# Altium footprint library WCH.PcbLib: 46 footprints (part 3 of 3)
Each footprint in its own frame and in the unit in brackets; x right, y up, seen from the top. Pads: shape width x height; smd on the part's side, far side on the other; paste and mask are expansions set on the pad; w line width, h text height; cw(c..) or ccw(c..) is an arc to the next point about the centre after c.
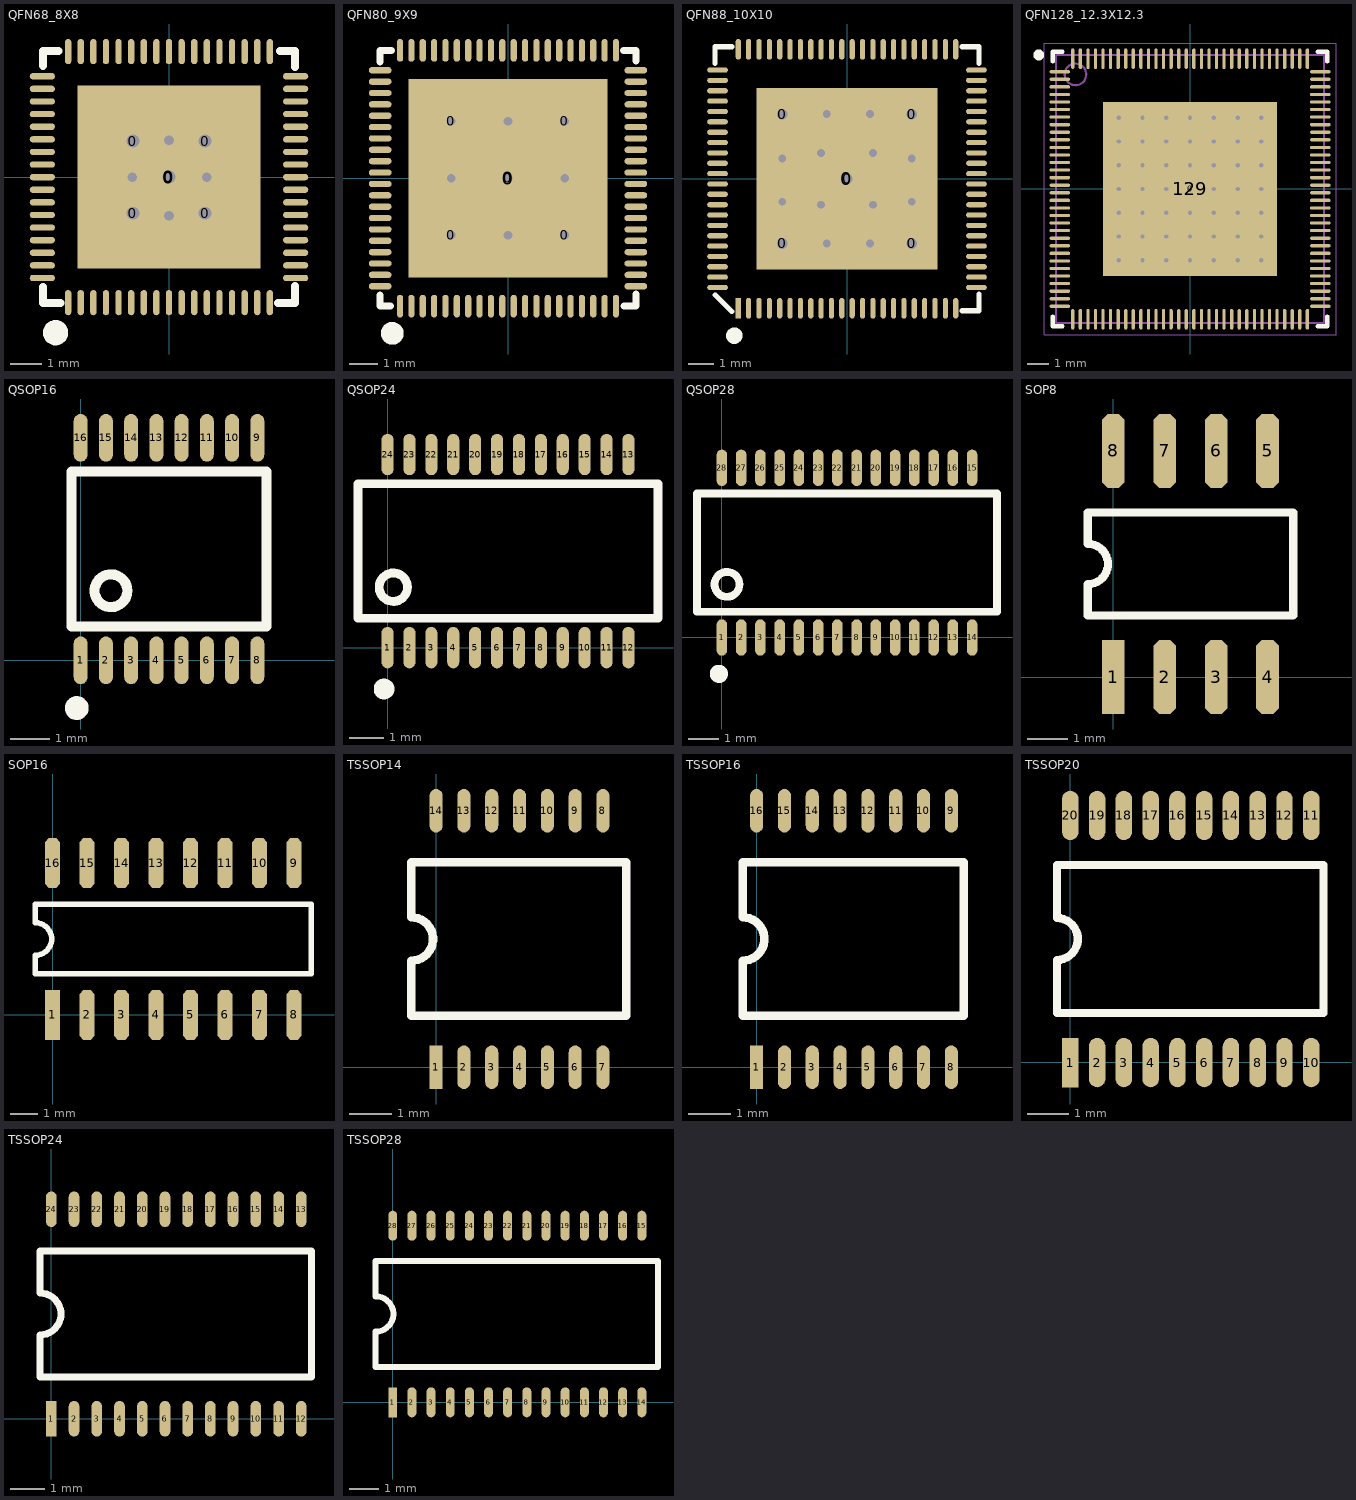
[diagram p2: the footprints below, top view; thin cyan lines are the x and y axes]

## QFN68_8X8 [mm]
pads (74):
  round 0.559 hole 0.406: 0(-1.143,-1.143) 0(-1.143,1.143) 0(0,0) 0(1.143,-1.143) 0(1.143,1.143)
  rect 5.8x5.8 smd mask+0.051: 0(0,0)
  oval 0.2x0.8 smd mask+0.051: 1(-3.2,-3.982) 2(-2.8,-3.982) 3(-2.4,-3.982) 4(-2,-3.982) 5(-1.6,-3.982) 6(-1.2,-3.982) 7(-0.8,-3.982) 8(-0.4,-3.982) 9(0,-3.982) 10(0.4,-3.982) 11(0.8,-3.982) 12(1.2,-3.982) 13(1.6,-3.982) 14(2,-3.982) 15(2.4,-3.982) 16(2.8,-3.982) 17(3.2,-3.982) 35(3.2,3.982) 36(2.8,3.982) 37(2.4,3.982) 38(2,3.982) 39(1.6,3.982) 40(1.2,3.982) 41(0.8,3.982) 42(0.4,3.982) 43(0,3.982) 44(-0.4,3.982) 45(-0.8,3.982) 46(-1.2,3.982) 47(-1.6,3.982) 48(-2,3.982) 49(-2.4,3.982) 50(-2.8,3.982) 51(-3.2,3.982)
  oval 0.8x0.2 smd mask+0.051: 18(4.018,-3.2) 19(4.018,-2.8) 20(4.018,-2.4) 21(4.018,-2) 22(4.018,-1.6) 23(4.018,-1.2) 24(4.018,-0.8) 25(4.018,-0.4) 26(4.018,0) 27(4.018,0.4) 28(4.018,0.8) 29(4.018,1.2) 30(4.018,1.6) 31(4.018,2) 32(4.018,2.4) 33(4.018,2.8) 34(4.018,3.2) 52(-4.018,3.2) 53(-4.018,2.8) 54(-4.018,2.4) 55(-4.018,2) 56(-4.018,1.6) 57(-4.018,1.2) 58(-4.018,0.8) 59(-4.018,0.4) 60(-4.018,0) 61(-4.018,-0.4) 62(-4.018,-0.8) 63(-4.018,-1.2) 64(-4.018,-1.6) 65(-4.018,-2) 66(-4.018,-2.4) 67(-4.018,-2.8) 68(-4.018,-3.2)
via 1.194,0 diameter 0.61 hole 0.305
via 0,-1.219 diameter 0.61 hole 0.305
via -1.168,0 diameter 0.61 hole 0.305
via 0,1.168 diameter 0.61 hole 0.305
Top Overlay:
  circle w0.4: c-3.599,-4.935 r0.2
  lines w0.254: -4,-3.492 -4,-4 -3.447,-4 ; -4,3.534 -4,4 -3.503,4 ; 3.459,-4 4,-4 4,-3.458 ; 3.517,4 4,4 4,3.498
3D body "QFN68_8x8mm.step": height 1, standoff 0.15, extent -4.02,-4.02 4.02,4.02

## QFN80_9X9 [mm]
pads (86):
  round 0.61 hole 0.305 mask+0.051: 0(-2,-2) 0(-2,2) 0(0,0) 0(2,-2) 0(2,2)
  rect 7x7 smd mask+0.051: 0(0,0)
  oval 0.22x0.8 smd mask+0.051: 1(-3.8,-4.5) 2(-3.4,-4.5) 3(-3,-4.5) 4(-2.6,-4.5) 5(-2.2,-4.5) 6(-1.8,-4.5) 7(-1.4,-4.5) 8(-1,-4.5) 9(-0.6,-4.5) 10(-0.2,-4.5) 11(0.2,-4.5) 12(0.6,-4.5) 13(1,-4.5) 14(1.4,-4.5) 15(1.8,-4.5) 16(2.2,-4.5) 17(2.6,-4.5) 18(3,-4.5) 19(3.4,-4.5) 20(3.8,-4.5) 41(3.8,4.5) 42(3.4,4.5) 43(3,4.5) 44(2.6,4.5) 45(2.2,4.5) 46(1.8,4.5) 47(1.4,4.5) 48(1,4.5) 49(0.6,4.5) 50(0.2,4.5) 51(-0.2,4.5) 52(-0.6,4.5) 53(-1,4.5) 54(-1.4,4.5) 55(-1.8,4.5) 56(-2.2,4.5) 57(-2.6,4.5) 58(-3,4.5) 59(-3.4,4.5) 60(-3.8,4.5)
  oval 0.8x0.22 smd mask+0.051: 21(4.5,-3.8) 22(4.5,-3.4) 23(4.5,-3) 24(4.5,-2.6) 25(4.5,-2.2) 26(4.5,-1.8) 27(4.5,-1.4) 28(4.5,-1) 29(4.5,-0.6) 30(4.5,-0.2) 31(4.5,0.2) 32(4.5,0.6) 33(4.5,1) 34(4.5,1.4) 35(4.5,1.8) 36(4.5,2.2) 37(4.5,2.6) 38(4.5,3) 39(4.5,3.4) 40(4.5,3.8) 61(-4.5,3.8) 62(-4.5,3.4) 63(-4.5,3) 64(-4.5,2.6) 65(-4.5,2.2) 66(-4.5,1.8) 67(-4.5,1.4) 68(-4.5,1) 69(-4.5,0.6) 70(-4.5,0.2) 71(-4.5,-0.2) 72(-4.5,-0.6) 73(-4.5,-1) 74(-4.5,-1.4) 75(-4.5,-1.8) 76(-4.5,-2.2) 77(-4.5,-2.6) 78(-4.5,-3) 79(-4.5,-3.4) 80(-4.5,-3.8)
via 0,2 diameter 0.6 hole 0.3
via 2,0 diameter 0.6 hole 0.3
via 0,-2 diameter 0.6 hole 0.3
via -2,0 diameter 0.6 hole 0.3
Top Overlay:
  circle w0.4: c-4.073,-5.457 r0.2
  lines w0.254: -4.5,-4.121 -4.5,-4.5 -4.135,-4.5 ; -4.5,4.095 -4.5,4.5 -4.095,4.5 ; 4.069,4.5 4.5,4.5 4.5,4.137 ; 4.082,-4.5 4.5,-4.5 4.5,-4.079
3D body "QFN80_9x9.step": height 0.95, standoff 0, extent -4.551,-4.551 4.551,4.551

## QFN88_10X10 [mm]
pads (94):
  round 0.711 hole 0.406 mask+0.051: 0(-2.5,-2.5) 0(-2.5,2.5) 0(0,0) 0(2.5,-2.5) 0(2.5,2.5)
  rect 7x7 smd mask+0.051: 0(0,0)
  rect 0.2x0.8 smd mask+0.051: 1(-4.2,-5)
  oval 0.2x0.8 smd mask+0.051: 2(-3.8,-5) 3(-3.4,-5) 4(-3,-5) 5(-2.6,-5) 6(-2.2,-5) 7(-1.8,-5) 8(-1.4,-5) 9(-1,-5) 10(-0.6,-5) 11(-0.2,-5) 12(0.2,-5) 13(0.6,-5) 14(1,-5) 15(1.4,-5) 16(1.8,-5) 17(2.2,-5) 18(2.6,-5) 19(3,-5) 20(3.4,-5) 21(3.8,-5) 22(4.2,-5) 45(4.2,5) 46(3.8,5) 47(3.4,5) 48(3,5) 49(2.6,5) 50(2.2,5) 51(1.8,5) 52(1.4,5) 53(1,5) 54(0.6,5) 55(0.2,5) 56(-0.2,5) 57(-0.6,5) 58(-1,5) 59(-1.4,5) 60(-1.8,5) 61(-2.2,5) 62(-2.6,5) 63(-3,5) 64(-3.4,5) 65(-3.8,5) 66(-4.2,5)
  oval 0.8x0.2 smd mask+0.051: 23(5,-4.2) 24(5,-3.8) 25(5,-3.4) 26(5,-3) 27(5,-2.6) 28(5,-2.2) 29(5,-1.8) 30(5,-1.4) 31(5,-1) 32(5,-0.6) 33(5,-0.2) 34(5,0.2) 35(5,0.6) 36(5,1) 37(5,1.4) 38(5,1.8) 39(5,2.2) 40(5,2.6) 41(5,3) 42(5,3.4) 43(5,3.8) 44(5,4.2) 67(-5,4.2) 68(-5,3.8) 69(-5,3.4) 70(-5,3) 71(-5,2.6) 72(-5,2.2) 73(-5,1.8) 74(-5,1.4) 75(-5,1) 76(-5,0.6) 77(-5,0.2) 78(-5,-0.2) 79(-5,-0.6) 80(-5,-1) 81(-5,-1.4) 82(-5,-1.8) 83(-5,-2.2) 84(-5,-2.6) 85(-5,-3) 86(-5,-3.4) 87(-5,-3.8) 88(-5,-4.2)
via 1,1 diameter 0.6 hole 0.3
via 1,-1 diameter 0.6 hole 0.3
via -1,-1 diameter 0.6 hole 0.3
via -1,1 diameter 0.6 hole 0.3
via -0.783,2.5 diameter 0.6 hole 0.3
via 2.5,0.783 diameter 0.6 hole 0.3
via 2.5,-0.884 diameter 0.6 hole 0.3
via -2.5,0.783 diameter 0.6 hole 0.3
via 0.884,2.5 diameter 0.6 hole 0.3
via -2.5,-0.884 diameter 0.6 hole 0.3
via -0.783,-2.5 diameter 0.6 hole 0.3
via 0.884,-2.5 diameter 0.6 hole 0.3
Top Overlay:
  circle w0.381: c-4.352,-6.062 r0.127
  lines w0.2: -5.1,4.45 -5.1,5.1 -4.45,5.1 ; 4.45,-5.1 5.1,-5.1 5.1,-4.45 ; 4.45,5.1 5.1,5.1 5.1,4.45
  lines w0.203: -5.089,-4.492 -4.454,-5.127
3D body "QFN88.step": height 0.86, standoff 0, extent -5.02,-5.01 5,5.01

## QFN128_12.3X12.3 [mm] "QFN, 128-Leads, Body 12.30x12.30mm, Pitch 0.35mm, Thermal Pad 8.05x8.05mm, IPC Medium Density 散热过孔尺寸待确认是否需要优化"
height 0.95
pads (130):
  round 0.5 hole 0.2: 0(0,0)
  oval 0.95x0.15 smd mask+0.05: 1(-6.025,5.425) 2(-6.025,5.075) 3(-6.025,4.725) 4(-6.025,4.375) 5(-6.025,4.025) 6(-6.025,3.675) 7(-6.025,3.325) 8(-6.025,2.975) 9(-6.025,2.625) 10(-6.025,2.275) 11(-6.025,1.925) 12(-6.025,1.575) 13(-6.025,1.225) 14(-6.025,0.875) 15(-6.025,0.525) 16(-6.025,0.175) 17(-6.025,-0.175) 18(-6.025,-0.525) 19(-6.025,-0.875) 20(-6.025,-1.225) 21(-6.025,-1.575) 22(-6.025,-1.925) 23(-6.025,-2.275) 24(-6.025,-2.625) 25(-6.025,-2.975) 26(-6.025,-3.325) 27(-6.025,-3.675) 28(-6.025,-4.025) 29(-6.025,-4.375) 30(-6.025,-4.725) 31(-6.025,-5.075) 32(-6.025,-5.425) 65(6.025,-5.425) 66(6.025,-5.075) 67(6.025,-4.725) 68(6.025,-4.375) 69(6.025,-4.025) 70(6.025,-3.675) 71(6.025,-3.325) 72(6.025,-2.975) 73(6.025,-2.625) 74(6.025,-2.275) 75(6.025,-1.925) 76(6.025,-1.575) 77(6.025,-1.225) 78(6.025,-0.875) 79(6.025,-0.525) 80(6.025,-0.175) 81(6.025,0.175) 82(6.025,0.525) 83(6.025,0.875) 84(6.025,1.225) 85(6.025,1.575) 86(6.025,1.925) 87(6.025,2.275) 88(6.025,2.625) 89(6.025,2.975) 90(6.025,3.325) 91(6.025,3.675) 92(6.025,4.025) 93(6.025,4.375) 94(6.025,4.725) 95(6.025,5.075) 96(6.025,5.425)
  oval 0.15x0.95 smd mask+0.05: 33(-5.425,-6.025) 34(-5.075,-6.025) 35(-4.725,-6.025) 36(-4.375,-6.025) 37(-4.025,-6.025) 38(-3.675,-6.025) 39(-3.325,-6.025) 40(-2.975,-6.025) 41(-2.625,-6.025) 42(-2.275,-6.025) 43(-1.925,-6.025) 44(-1.575,-6.025) 45(-1.225,-6.025) 46(-0.875,-6.025) 47(-0.525,-6.025) 48(-0.175,-6.025) 49(0.175,-6.025) 50(0.525,-6.025) 51(0.875,-6.025) 52(1.225,-6.025) 53(1.575,-6.025) 54(1.925,-6.025) 55(2.275,-6.025) 56(2.625,-6.025) 57(2.975,-6.025) 58(3.325,-6.025) 59(3.675,-6.025) 60(4.025,-6.025) 61(4.375,-6.025) 62(4.725,-6.025) 63(5.075,-6.025) 64(5.425,-6.025) 97(5.425,6.025) 98(5.075,6.025) 99(4.725,6.025) 100(4.375,6.025) 101(4.025,6.025) 102(3.675,6.025) 103(3.325,6.025) 104(2.975,6.025) 105(2.625,6.025) 106(2.275,6.025) 107(1.925,6.025) 108(1.575,6.025) 109(1.225,6.025) 110(0.875,6.025) 111(0.525,6.025) 112(0.175,6.025) 113(-0.175,6.025) 114(-0.525,6.025) 115(-0.875,6.025) 116(-1.225,6.025) 117(-1.575,6.025) 118(-1.925,6.025) 119(-2.275,6.025) 120(-2.625,6.025) 121(-2.975,6.025) 122(-3.325,6.025) 123(-3.675,6.025) 124(-4.025,6.025) 125(-4.375,6.025) 126(-4.725,6.025) 127(-5.075,6.025) 128(-5.425,6.025)
  rect 8.05x8.05 smd: 129(0,0)
via -3.3,3.3 diameter 0.5 hole 0.2
via -2.2,3.3 diameter 0.5 hole 0.2
via -1.1,3.3 diameter 0.5 hole 0.2
via 0,3.3 diameter 0.5 hole 0.2
via 1.1,3.3 diameter 0.5 hole 0.2
via 2.2,3.3 diameter 0.5 hole 0.2
via -3.3,2.2 diameter 0.5 hole 0.2
via -2.2,2.2 diameter 0.5 hole 0.2
via -1.1,2.2 diameter 0.5 hole 0.2
via 0,2.2 diameter 0.5 hole 0.2
via 1.1,2.2 diameter 0.5 hole 0.2
via 2.2,2.2 diameter 0.5 hole 0.2
via 3.3,2.2 diameter 0.5 hole 0.2
via -3.3,1.1 diameter 0.5 hole 0.2
via -2.2,1.1 diameter 0.5 hole 0.2
via -1.1,1.1 diameter 0.5 hole 0.2
via 0,1.1 diameter 0.5 hole 0.2
via 1.1,1.1 diameter 0.5 hole 0.2
via 2.2,1.1 diameter 0.5 hole 0.2
via 3.3,1.1 diameter 0.5 hole 0.2
via -3.3,0 diameter 0.5 hole 0.2
via -2.2,0 diameter 0.5 hole 0.2
via -1.1,0 diameter 0.5 hole 0.2
via 1.1,0 diameter 0.5 hole 0.2
via 2.2,0 diameter 0.5 hole 0.2
via 3.3,0 diameter 0.5 hole 0.2
via -3.3,-1.1 diameter 0.5 hole 0.2
via -2.2,-1.1 diameter 0.5 hole 0.2
via -1.1,-1.1 diameter 0.5 hole 0.2
via 0,-1.1 diameter 0.5 hole 0.2
via 1.1,-1.1 diameter 0.5 hole 0.2
via 2.2,-1.1 diameter 0.5 hole 0.2
via 3.3,-1.1 diameter 0.5 hole 0.2
via -3.3,-2.2 diameter 0.5 hole 0.2
via -2.2,-2.2 diameter 0.5 hole 0.2
via -1.1,-2.2 diameter 0.5 hole 0.2
via 0,-2.2 diameter 0.5 hole 0.2
via 1.1,-2.2 diameter 0.5 hole 0.2
via 2.2,-2.2 diameter 0.5 hole 0.2
via 3.3,-2.2 diameter 0.5 hole 0.2
via -3.3,-3.3 diameter 0.5 hole 0.2
via -2.2,-3.3 diameter 0.5 hole 0.2
via -1.1,-3.3 diameter 0.5 hole 0.2
via 0,-3.3 diameter 0.5 hole 0.2
via 1.1,-3.3 diameter 0.5 hole 0.2
via 2.2,-3.3 diameter 0.5 hole 0.2
via 3.3,-3.3 diameter 0.5 hole 0.2
via 3.3,3.3 diameter 0.5 hole 0.2
Top Overlay:
  circle w0.25: c-7,6.2 r0.125
  lines w0.2: -6.35,-5.9 -6.35,-6.35 -5.9,-6.35 ; -6.35,5.9 -6.35,6.35 -5.9,6.35 ; 5.9,-6.35 6.35,-6.35 6.35,-5.9 ; 5.9,6.35 6.35,6.35 6.35,5.9
Mechanical 13:
  circle w0.1: c-5.3,5.3 r0.5
  lines w0.1: -6.2,-6.2 -6.2,6.2 6.2,6.2 6.2,-6.2 -6.2,-6.2
Mechanical 15:
  lines w0.05: -6.75,-6.75 -6.75,6.75 6.75,6.75 6.75,-6.75 -6.75,-6.75
  lines w0.1: -0.5,0 0.5,0 ; 0,-0.5 0,0.5
3D body "QFN128-12.3x12.3.step": height 0.95, standoff 0, extent -6.25,-6.25 6.25,6.25

## QSOP16 [mm]
pads (16):
  oval 0.35x1.2 smd mask+0.051: 1(0,0) 2(0.635,0) 3(1.27,0) 4(1.905,0) 5(2.54,0) 6(3.175,0) 7(3.81,0) 8(4.445,0) 9(4.445,5.6) 10(3.81,5.6) 11(3.175,5.6) 12(2.54,5.6) 13(1.905,5.6) 14(1.27,5.6) 15(0.635,5.6) 16(0,5.6)
Top Overlay:
  circle w0.254: c0.762,1.752 r0.412
  circle w0.3: c-0.1,-1.2 r0.15
  lines w0.254: -0.227,0.85 4.673,0.85 4.673,4.75 -0.227,4.75 -0.227,0.85
3D body "QSOP16.step": height 1.78, standoff 0.01, extent -0.26,-0.16 4.72,5.86

## QSOP24 [mm]
pads (24):
  oval 0.35x1.2 smd mask+0.051: 1(0,0) 2(0.635,0) 3(1.27,0) 4(1.905,0) 5(2.54,0) 6(3.175,0) 7(3.81,0) 8(4.445,0) 9(5.08,0) 10(5.715,0) 11(6.35,0) 12(6.985,0) 13(6.985,5.6) 14(6.35,5.6) 15(5.715,5.6) 16(5.08,5.6) 17(4.445,5.6) 18(3.81,5.6) 19(3.175,5.6) 20(2.54,5.6) 21(1.905,5.6) 22(1.27,5.6) 23(0.635,5.6) 24(0,5.6)
Top Overlay:
  circle w0.3: c-0.1,-1.2 r0.15
  circle w0.254: c0.167,1.752 r0.412
  lines w0.254: -0.857,0.85 -0.857,4.75 7.843,4.75 7.843,0.85 -0.857,0.85
3D body "QSOP24.step": height 1.61, standoff 0.01, extent -0.825,-0.191 7.825,5.792

## QSOP28 [mm]
pads (28):
  oval 0.35x1.2 smd mask+0.051: 1(0,0) 2(0.635,0) 3(1.27,0) 4(1.905,0) 5(2.54,0) 6(3.175,0) 7(3.81,0) 8(4.445,0) 9(5.08,0) 10(5.715,0) 11(6.35,0) 12(6.985,0) 13(7.62,0) 14(8.255,0) 15(8.255,5.6) 16(7.62,5.6) 17(6.985,5.6) 18(6.35,5.6) 19(5.715,5.6) 20(5.08,5.6) 21(4.445,5.6) 22(3.81,5.6) 23(3.175,5.6) 24(2.54,5.6) 25(1.905,5.6) 26(1.27,5.6) 27(0.635,5.6) 28(0,5.6)
Top Overlay:
  circle w0.3: c-0.1,-1.2 r0.15
  circle w0.254: c0.167,1.752 r0.412
  lines w0.254: -0.823,0.85 -0.823,4.75 9.078,4.75 9.078,0.85 -0.823,0.85
3D body "QSOP28.step": height 1.55, standoff 0, extent -0.82,-0.2 9.08,5.8

## SOP8 [mil]
pads (8):
  rect 22x72 smd: 1(0,0)
  oct 22x72 smd: 2(50,0) 3(100,0) 4(150,0) 5(150,220) 6(100,220) 7(50,220) 8(0,220)
Top Overlay:
  lines w8: -25,60 175,60 175,160 -25,160 -25,129.69 cw(c-25,110) -25,90.31 -25,60
3D body "sop8.STEP": height 61.11, standoff -0.31, extent -23,-5.39 169.92,230.04

## SOP16 [mil]
pads (16):
  rect 22x72 smd: 1(0,0)
  oct 22x72 smd: 2(50,0) 3(100,0) 4(150,0) 5(200,0) 6(250,0) 7(300,0) 8(350,0) 9(350,220) 10(300,220) 11(250,220) 12(200,220) 13(150,220) 14(100,220) 15(50,220) 16(0,220)
Top Overlay:
  lines w8: -25,60 375,60 375,160 -25,160 -25,133.62 cw(c-25,110) -25,86.38 -25,60
3D body "sop16.step": height 62.01, standoff 0.12, extent -21.67,-12.5 371.29,232.97

## TSSOP14 [mil]
pads (14):
  rect 12x40 smd: 1(0,0)
  oval 12x40 smd: 2(25.6,0) 3(51.2,0) 4(76.8,0) 5(102.4,0) 6(128,0) 7(153.5,0) 8(153.5,236) 9(128,236) 10(102.4,236) 11(76.8,236) 12(51.2,236) 13(25.6,236) 14(0,236)
Top Overlay:
  lines w7.87: -22.8,47.24 -22.8,98 ccw(c-22.8,118) -22.8,138 -22.8,188.76 175.11,188.76 175.11,47.24 -22.8,47.24
3D body "TSSOP14.step": height 43.31, standoff 0, extent -21.65,-7.87 175.2,244.09

## TSSOP16 [mil]
pads (16):
  rect 12x40 smd: 1(0,0)
  oval 12x40 smd: 2(25.6,0) 3(51.2,0) 4(76.8,0) 5(102.4,0) 6(128,0) 7(153.5,0) 8(179.1,0) 9(179.1,236) 10(153.5,236) 11(128,236) 12(102.4,236) 13(76.8,236) 14(51.2,236) 15(25.6,236) 16(0,236)
Top Overlay:
  lines w7.87: -12.79,47.24 190.71,47.24 190.71,188.76 -12.79,188.76 -12.79,138 cw(c-12.79,118) -12.8,98 -12.79,47.24
3D body "TSSOP-16.step": height 43.31, standoff 0, extent -8.43,-8.48 188.43,243.48

## TSSOP20 [mm]
height 1.3
pads (20):
  rect 0.4x1.2 smd mask+0.05: 1(0,-0.003)
  oval 0.4x1.2 smd mask+0.05: 2(0.65,-0.003) 3(1.3,-0.003) 4(1.951,-0.003) 5(2.601,-0.003) 6(3.251,-0.003) 7(3.899,-0.003) 8(4.549,-0.003) 9(5.199,-0.003) 10(5.85,-0.003) 11(5.85,5.997) 12(5.199,5.997) 13(4.549,5.997) 14(3.899,5.997) 15(3.251,5.997) 16(2.601,5.997) 17(1.951,5.997) 18(1.3,5.997) 19(0.65,5.997) 20(0,5.997)
Top Overlay:
  lines w0.2: -0.325,1.2 -0.325,2.489 ccw(c-0.325,2.997) -0.325,3.505 -0.325,4.794 6.145,4.794 6.145,1.2 -0.325,1.2
3D body "TSSOP-20.step": height 1.2, standoff 0, extent -0.37,-0.275 6.23,6.275

## TSSOP24 [mil]
pads (24):
  rect 12x40 smd: 1(0,0)
  oval 12x40 smd: 2(25.6,0) 3(51.2,0) 4(76.8,0) 5(102.4,0) 6(128,0) 7(153.5,0) 8(179.1,0) 9(204.7,0) 10(230.3,0) 11(256,0) 12(281.5,0) 13(281.5,236) 14(256,236) 15(230.3,236) 16(204.7,236) 17(179.1,236) 18(153.5,236) 19(128,236) 20(102.4,236) 21(76.8,236) 22(51.2,236) 23(25.6,236) 24(0,236)
Top Overlay:
  lines w7.87: -12.79,47.24 293.11,47.24 293.11,188.76 -12.79,188.76 -12.79,141.62 cw(c-12.79,118) -12.8,94.38 -12.79,47.24
3D body "TSSOP24.step": height 46.85, standoff 0.21, extent -14.17,-8.01 296.46,244.23

## TSSOP28 [mil]
pads (28):
  rect 12x40 smd: 1(0,0)
  oval 12x40 smd: 2(25.6,0) 3(51.2,0) 4(76.8,0) 5(102.4,0) 6(128,0) 7(153.5,0) 8(179.1,0) 9(204.7,0) 10(230.3,0) 11(256,0) 12(281.5,0) 13(307.2,0) 14(332.7,0) 15(332.7,236) 16(307.2,236) 17(281.5,236) 18(256,236) 19(230.3,236) 20(204.7,236) 21(179.1,236) 22(153.5,236) 23(128,236) 24(102.4,236) 25(76.8,236) 26(51.2,236) 27(25.6,236) 28(0,236)
Top Overlay:
  lines w7.87: -22.8,47.24 354.31,47.24 354.31,188.76 -22.8,188.76 -22.8,141.62 cw(c-22.8,118) -22.8,94.38 -22.8,47.24
3D body "TSSOP-28.STEP": height 39.08, standoff 0.15, extent -25.2,-7.87 356.69,244.09